# EAGLE library part LM2670 (library JLB6_power)
Regulateur LM2670
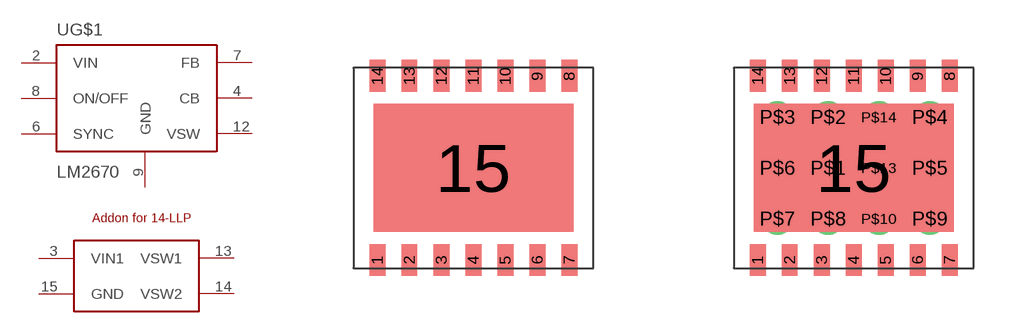
[diagram p2: symbol with the pads of 14-LLP; footprints 14-LLP, 14-LLP-V]

Designator prefix U; gates G$1=LM2670 G$2=LM2670+

## LM2670STD  [14-LLP]
2  G$1:VIN  in
3  G$2:VIN1  in
4  G$1:CB
6  G$1:SYNC  in
7  G$1:FB  in
8  G$1:ON/OFF  in
9  G$1:GND  pwr
12  G$1:VSW  out
13  G$2:VSW1  out
14  G$2:VSW2  out
15  G$2:GND  pwr

## LM2670VIA  [14-LLP-V]
Pads as for 14-LLP

## Footprint 14-LLP (pad centres in mm)
smd 0.4 x 0.8: 1 -2.4,-2.3; 2 -1.6,-2.3; 3 -0.8,-2.3; 4 0,-2.3; 5 0.8,-2.3; 6 1.6,-2.3; 7 2.4,-2.3; 8 2.4,2.3; 9 1.6,2.3; 10 0.8,2.3; 11 0,2.3; 12 -0.8,2.3; 13 -1.6,2.3; 14 -2.4,2.3
smd 5 x 3.2: 15 0,0

## Footprint 14-LLP-V (pad centres in mm)
smd 0.4 x 0.8: 1 -2.4,-2.3; 2 -1.6,-2.3; 3 -0.8,-2.3; 4 0,-2.3; 5 0.8,-2.3; 6 1.6,-2.3; 7 2.4,-2.3; 8 2.4,2.3; 9 1.6,2.3; 10 0.8,2.3; 11 0,2.3; 12 -0.8,2.3; 13 -1.6,2.3; 14 -2.4,2.3
smd 5 x 3.2: 15 0,0
drill 0.3 pad 0.61: P$1 -0.635,0; P$2 -0.635,1.27; P$3 -1.905,1.27; P$4 1.905,1.27; P$5 1.905,0; P$6 -1.905,0; P$7 -1.905,-1.27; P$8 -0.635,-1.27; P$9 1.905,-1.27; P$10 0.635,-1.27; P$13 0.635,0; P$14 0.635,1.27